# EAGLE library part MPU6050 (library awesome)
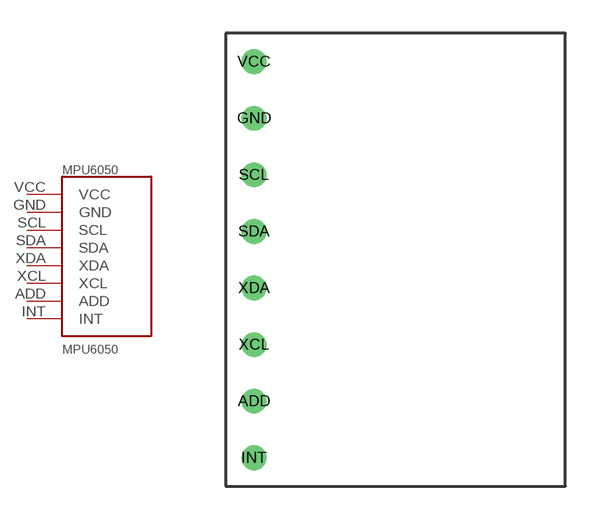
[diagram p2: symbol with the pads of MPU6050; footprint MPU6050]

Designator prefix MPU6050

## MPU6050  [MPU6050]
ADD  ADD
GND  GND
INT  INT
SCL  SCL
SDA  SDA
VCC  VCC
XCL  XCL
XDA  XDA

## Footprint MPU6050 (pad centres in mm)
drill 0.6: ADD 1.27,3.81; GND 1.27,16.51; INT 1.27,1.27; SCL 1.27,13.97; SDA 1.27,11.43; VCC 1.27,19.05; XCL 1.27,6.35; XDA 1.27,8.89